# Altium schematic symbol library LED数码管.SchLib: 19 symbols
Pins are listed as number, name and electrical type; pins without a type are passive.

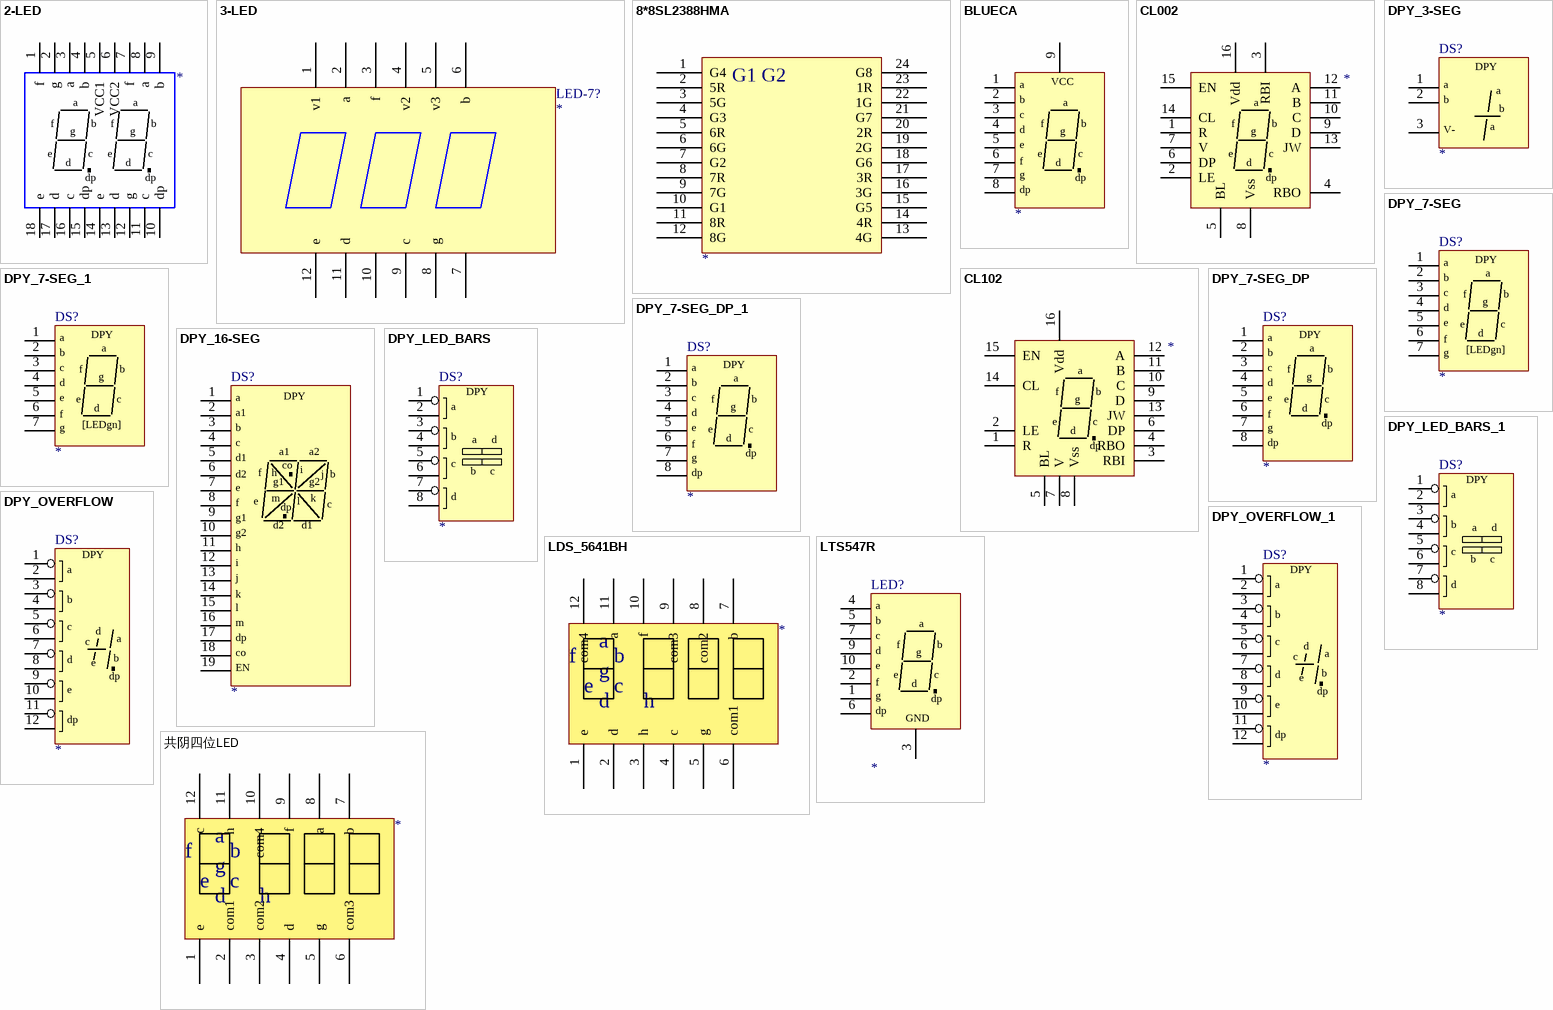
[diagram p0: symbols 2-LED to 共阴四位LED]

## 2-LED
designator ?
pins: 1 f, 2 g, 3 a, 4 b, 5 VCC1, 6 VCC2, 7 f, 8 a, 9 b, 10 dp, 11 c, 12 g, 13 d, 14 e, 15 dp, 16 c, 17 d, 18 e

## 3-LED
designator LED-7?
footprint LED-7D
pins: 1 v1, 2 a, 3 f, 4 v2, 5 v3, 6 b, 7, 8 g, 9 c, 10, 11 d, 12 e

## 8*8SL2388HMA
designator ?
pins: 1 G4, 2 5R, 3 5G, 4 G3, 5 6R, 6 6G, 7 G2, 8 7R, 9 7G, 10 G1, 11 8R, 12 8G, 13 4G, 14 4R, 15 G5, 16 3G, 17 3R, 18 G6, 19 2G, 20 2R, 21 G7, 22 1G, 23 1R, 24 G8
text: G1 G2

## BLUECA
designator ?
pins: 1 a, 2 b, 3 c, 4 d, 5 e, 6 f, 7 g, 8 dp, 9 VCC

## CL002
designator ?
pins: 1 R, 2 LE, 3 RBI, 4 RBO, 5 BL, 6 DP, 7 V, 8 Vss, 9 D, 10 C, 11 B, 12 A, 13 JW, 14 CL, 15 EN, 16 Vdd
text: a; f; b; g; e; c; d; dp

## CL102
designator ?
pins: 1 R, 2 LE, 3 RBI, 4 RBO, 5 BL, 6 DP, 7 V, 8 Vss, 9 D, 10 C, 11 B, 12 A, 13 JW, 14 CL, 15 EN, 16 Vdd
text: a; f; b; g; e; c; d; dp

## DPY_3-SEG
designator DS?
Three-Segment Display
pins: 1 x, 2 y, 3 z
text: DPY; a; b; V-

## DPY_7-SEG
designator DS?
Seven-Segment Display
pins: 1 a, 2 b, 3 c, 4 d, 5 e, 6 f, 7 g
text: DPY; [LEDgn]

## DPY_7-SEG_1
designator DS?
Seven-Segment Display
pins: 1 a, 2 b, 3 c, 4 d, 5 e, 6 f, 7 g
text: DPY; [LEDgn]

## DPY_7-SEG_DP
designator DS?
Seven-Segment Display, Right Hand Decimal
pins: 1 a, 2 b, 3 c, 4 d, 5 e, 6 f, 7 g, 8 dp
text: DPY

## DPY_7-SEG_DP_1
designator DS?
Seven-Segment Display, Right Hand Decimal
pins: 1 a, 2 b, 3 c, 4 d, 5 e, 6 f, 7 g, 8 dp
text: DPY

## DPY_16-SEG
designator DS?
Sixteen-Segment (Alphanumeric) Display
pins: 1 a1, 2 a1, 3 b, 4 c, 5 d1, 6 d2, 7 e, 8 f, 9 g1, 10 g2, 11 h, 12 i, 13 j, 14 k, 15 l, 16 m, 17 dp, 18 co, 19 EN
text: DPY; a; a2

## DPY_LED_BARS
designator DS?
LED Light Bars
pins: 1 ~{a}, 2 a, 3 ~{b}, 4 b, 5 ~{c}, 6 c, 7 ~{d}, 8 d
text: DPY

## DPY_LED_BARS_1
designator DS?
LED Light Bars
pins: 1 ~{a}, 2 a, 3 ~{b}, 4 b, 5 ~{c}, 6 c, 7 ~{d}, 8 d
text: DPY

## DPY_OVERFLOW
designator DS?
Overflow, Right Hand Decimal
pins: 1 ~{a}, 2 a, 3 ~{b}, 4 b, 5 ~{c}, 6 c, 7 ~{d}, 8 d, 9 ~{e}, 10 e, 11 d~{p}, 12 dp
text: DPY

## DPY_OVERFLOW_1
designator DS?
Overflow, Right Hand Decimal
pins: 1 ~{a}, 2 a, 3 ~{b}, 4 b, 5 ~{c}, 6 c, 7 ~{d}, 8 d, 9 ~{e}, 10 e, 11 d~{p}, 12 dp
text: DPY

## LDS_5641BH
designator ?
pins: 1 e, 2 d, 3 h, 4 c, 5 g, 6 com1, 7 b, 8 com2, 9 com3, 10 f, 11 a, 12 com4

## LTS547R
designator LED?
footprint LTS547R
footprint LED-7B
pins: 1, 2, 3, 4, 5, 6, 7, 9, 10
text: a; b; c; f; d; g; e; dp; GND

## 共阴四位LED
designator ?
footprint LDS-5461BH
pins: 1 e, 2 com1, 3 com2, 4 d, 5 g, 6 com3, 7 b, 8 a, 9 f, 10 com4, 11 h, 12 c